# EAGLE library part A000066 (library A000066)
Check availability <https://pricing.snapeda.com/parts/A000066/Arduino/view-part?ref=eda>
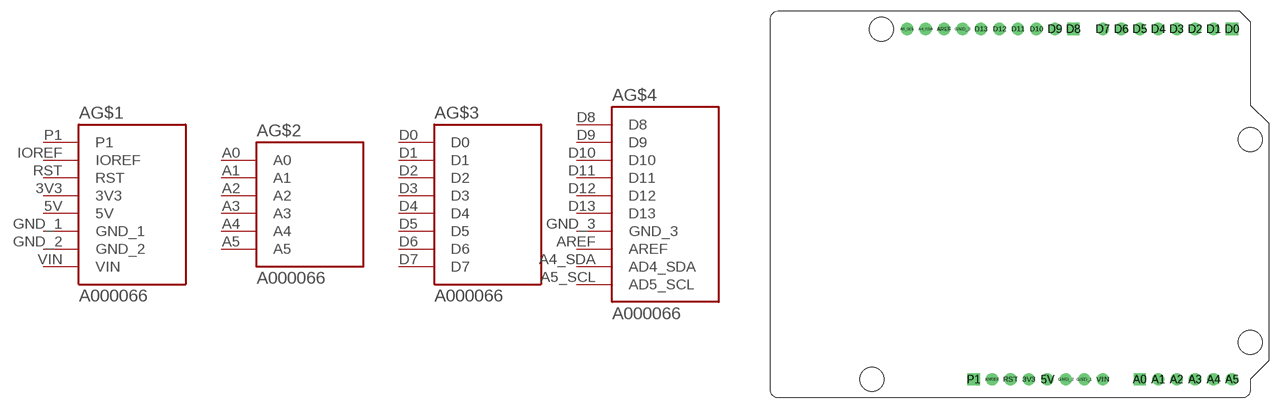
[diagram p0: symbol with the pads of ARDUINO_A000066; footprint ARDUINO_A000066]

Designator prefix A; gates G$1=A000066_POWER G$2=A000066_ANALOG G$3=A000066_IOL G$4=A000066_IOH

## A000066 (Availability: In Stock; Check_prices: https://www.snapeda.com/parts/A000066/Arduino/view-part/?ref=eda; Description: Arduino UNO Rev3 Microcontroller Board, ATmega328P | Arduino A000066; MF: Arduino; MP: A000066; Package: Non-Standard Arduino; Price: None; Purchase-URL: https://www.snapeda.com/api/url_track_click_mouser/?unipart_id=7027813&manufacturer=Arduino&part_name=A000066&search_term=arduino uno r3; SnapEDA_Link: https://www.snapeda.com/parts/A000066/Arduino/view-part/?ref=snap)  [ARDUINO_A000066]
3V3  G$1:3V3  pwr
5V  G$1:5V  pwr
A0  G$2:A0
A1  G$2:A1
A2  G$2:A2
A3  G$2:A3
A4  G$2:A4
A4_SDA  G$4:AD4_SDA
A5  G$2:A5
A5_SCL  G$4:AD5_SCL
AREF  G$4:AREF
D0  G$3:D0
D1  G$3:D1
D2  G$3:D2
D3  G$3:D3
D4  G$3:D4
D5  G$3:D5
D6  G$3:D6
D7  G$3:D7
D8  G$4:D8
D9  G$4:D9
D10  G$4:D10
D11  G$4:D11
D12  G$4:D12
D13  G$4:D13
GND_1  G$1:GND_1  pwr
GND_2  G$1:GND_2  pwr
GND_3  G$4:GND_3  pwr
IOREF  G$1:IOREF
P1  G$1:P1
RST  G$1:RST
VIN  G$1:VIN  pwr

## Footprint ARDUINO_A000066 (pad centres in mm)
drill 1.016 pad 1.676: 3V3 1.293,-24.109; 5V 3.833,-24.109; A1 19.073,-24.109; A2 21.613,-24.109; A3 24.153,-24.109; A4 26.693,-24.109; A4_SDA -12.931,24.151; A5 29.233,-24.109; A5_SCL -15.471,24.151; AREF -10.391,24.151; D1 26.693,24.151; D2 24.153,24.151; D3 21.613,24.151; D4 19.073,24.151; D5 16.533,24.151; D6 13.993,24.151; D7 11.453,24.151; D9 4.849,24.151; D10 2.309,24.151; D11 -0.231,24.151; D12 -2.771,24.151; D13 -5.311,24.151; GND_1 8.913,-24.109; GND_2 6.373,-24.109; GND_3 -7.851,24.151; IOREF -3.787,-24.109; RST -1.247,-24.109; VIN 11.453,-24.109
drill 1.016 pad 1.676 square: A0 16.533,-24.109; D0 29.233,24.151; D8 7.389,24.151; P1 -6.327,-24.109
hole 3.3 at 31.773,8.911
hole 3.3 at 31.773,-19.029
hole 3.3 at -19.027,24.151
hole 3.3 at -20.297,-24.109